# Altium schematic symbol library IND,RFID,7.8mH,84.5R,Wirewound,SMD.Schlib: 1 symbol
Pins are listed as number, name and electrical type; pins without a type are passive.

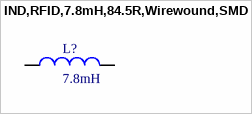
[diagram p0: symbol IND,RFID,7.8mH,84.5R,Wirewound,SMD]

## IND,RFID,7.8mH,84.5R,Wirewound,SMD
designator L?, comment 7.8mH
RFID Antenna 125kHz
pins: 1, 2